# Altium schematic symbol library uControllerTemplate2021.SchLib: 25 symbols
Pins are listed as number, name and electrical type; pins without a type are passive.

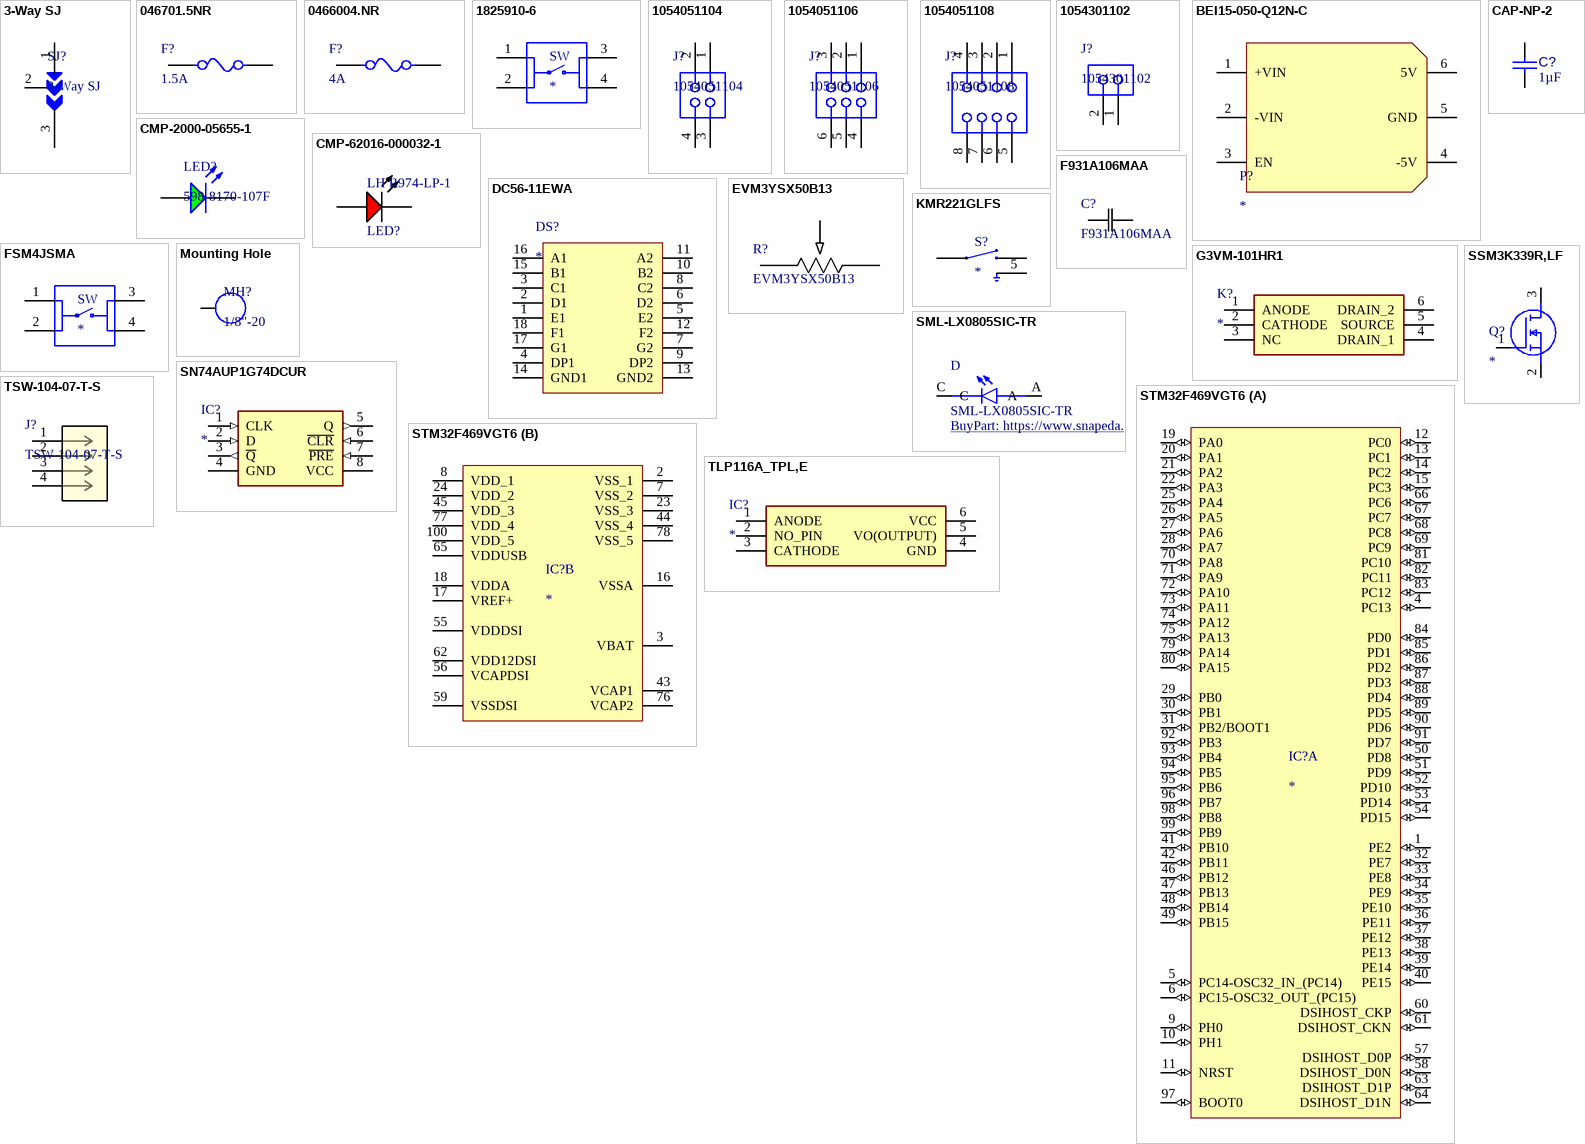
[diagram p0: symbols 3-Way SJ to TSW-104-07-T-S]

## 3-Way SJ
designator SJ?
3-Way Solder Jumper
footprint 3-Way SJ
pins: 1, 2, 3

## 046701.5NR
designator F?, comment 1.5A
1.5A 0603 Fuse; Manufacturer_Name: LITTELFUSE; Manufacturer_Part_Number: 046701.5NR; Datasheet Link: https://www.littelfuse.com/~/media/electronics/datasheets/fuses/littelfuse_fuse_467_datasheet.pdf.pdf; Height: 0.432mm; Arrow Part Number: 046701.5NR; Arrow Price/Stock: https://www.arrow.com/en/products/046701.5nr/littelfuse; Mouser Part Number: 576-046701.5NR; Mouser Price/Stock: https://www.mouser.com/Search/Refine.aspx?Keyword=576-046701.5NR; Value: 1.5A
footprint FUSC1608X43N
pins: 1, 2

## 0466004.NR
designator F?, comment 4A
FUSE BOARD MNT 4A 32VAC/VDC 1206; Manufacturer: Littelfuse; Manufacturer Part Number: 0466004.NR; DC Cold Resistance: 14mR; Voltage Rating (AC): 32V; Fuse Type: Board Mount (Cartridge Style Excluded); Approvals: UL,CSA; Supplier 1: Digi-Key; RoHS: Yes; Category: Fuses; Stock 1: 7288; Pricing 1: 1=0.85000, 5=0.82000, 10=0.76800, 50=0.63520, 100=0.52930, 250=0.51608, 500=0.43668, 1000=0.38376 (USD); Mount: Surface Mount; Case/Package: 1206; Case Code (Imperial): 1206; Case Code (Metric): 3216; Min Operating Temperature: -55°C; Max Operating Temperature: 90°C; Voltage Rating (DC): 32V; Current Rating: 4A; Packaging: Tape and Reel; Resistance: 14mR; Package Quantity: 5000; Fuse Current: 4A; Voltage Rating: 32V; Length: 3.18mm; Height: 0.023inch; Depth: 1.52mm; Width: 1.52mm; Lead Free: Lead Free; REACH SVHC: Unknown; ComponentLink1URL: https://datasheet.ciiva.com/16200/littelfuse-fuse-466-16200179.pdf?src-supplier=Future+Electronics; ComponentLink1Description: https://datasheet.ciiva.com/16200/littelfuse-fuse-466-16200179.pdf?src-supplier=Future+Electronics; ComponentLink2URL: https://datasheet.ciiva.com/1549/48294-1549713.pdf?src-supplier=Element14; ComponentLink2Description: https://datasheet.ciiva.com/1549/48294-1549713.pdf?src-supplier=Element14; ComponentLink3URL: https://datasheet.ciiva.com/7991/littelfuse-fuse-466-7991928.pdf?src-supplier=Element14; ComponentLink3Description: https://datasheet.ciiva.com/7991/littelfuse-fuse-466-7991928.pdf?src-supplier=Element14; ComponentLink4URL: https://datasheet.ciiva.com/46394/728615-46394826.pdf?src-supplier=Element14; ComponentLink4Description: https://datasheet.ciiva.com/46394/728615-46394826.pdf?src-supplier=Element14; ComponentLink5URL: https://datasheet.ciiva.com/22713/48294-22713051.pdf?src-supplier=Element14; ComponentLink5Description: https://datasheet.ciiva.com/22713/48294-22713051.pdf?src-supplier=Element14; ComponentLink6URL: https://datasheet.ciiva.com/301/466seriesdrawing-301660.pdf?src-supplier=Digi-Key; ComponentLink6Description: https://datasheet.ciiva.com/301/466seriesdrawing-301660.pdf?src-supplier=Digi-Key; ComponentLink7URL: https://datasheet.ciiva.com/301/466seriesdrawing-301661.pdf?src-supplier=Digi-Key; ComponentLink7Description: https://datasheet.ciiva.com/301/466seriesdrawing-301661.pdf?src-supplier=Digi-Key; ComponentLink8URL: https://datasheet.ciiva.com/301/466seriesdrawing-301662.pdf?src-supplier=Digi-Key; ComponentLink8Description: https://datasheet.ciiva.com/301/466seriesdrawing-301662.pdf?src-supplier=Digi-Key; Supplier Part Number 1: F1459CT-ND; Value: 4A
footprint 0466004.NR (FUSE BOARD MNT 4A 32VAC/VDC 1206)
pins: 1, 2

## 1825910-6
designator SW
Switch Push Button OFF _ON_ SPST Round Button 0.05A 24VDC Momentary Contact PC Pins Thru-Hole; Configuration_Pole-Throw: Single Pole - Single Throw; MF: TE Connectivity; Contact_Current_Rating: 50 mA; MP: 1825910-6; Digi-Key_Purchase_URL: https://www.digikey.com/product-detail/en/te-connectivity-alcoswitch-switches/1825910-6/450-1650-ND/1632536?utm_source=snapeda&utm_medium=aggregator&utm_campaign=symbol; TE_purchase_URL: https://www.te.com/usa-en/product-1825910-6.html?te_bu=Cor&te_type=disp&te_campaign=seda_glo_cor-seda-global-disp-prtnr-fy19-seda-model-bom-cta_sma-317_1&elqCampaignId=32493; Value: *; Digi-Key_Part_Number: 450-1650-ND; SnapEDA_Link: https://www.snapeda.com/parts/1825910-6/TE%20Connectivity%20ALCOSWITCH%20Switches/view-part/424522/?ref=snap; EU_RoHS_Compliance: Compliant; Package: None
footprint SW_1825910-6-4
pins: 1, 2, 3, 4

## 1054051104
designator J?
Nano-Fit Right-Angle Header, Surface Mount, 2.50mm Pitch, Dual Row, 4 Circuits, 0.76µm Tin (Sn) Plating, Black, Glow-Wire Capable; Manufacturer: Molex; Pitch: 2.5 mm; Part Number: 1054051104; ComponentLink2Description: Datasheet; Mounting Technology: Surface Mount; ComponentLink2URL: https://www.molex.com/webdocs/datasheets/pdf/en-us/1054051104_PCB_HEADERS.pdf; Orientation: Right
footprint 1054051104 (Nano-Fit Right-Angle Header, Surface Mount, 2.50mm Pitch, Dual Row, 4 Circuits, 0.76µm Tin (Sn) Plating, Black, Glow-Wire Capable)
pins: 1, 2, 3, 4

## 1054051106
designator J?
Nano-Fit Right-Angle Header, Surface Mount, 2.50mm Pitch, Dual Row, 6 Circuits, 0.76µm Tin (Sn) Plating, Black, Glow-Wire Capable; Manufacturer: Molex; Pitch: 2.5 mm; Part Number: 1054051106; ComponentLink2Description: Datasheet; Mounting Technology: Surface Mount; ComponentLink2URL: https://www.molex.com/webdocs/datasheets/pdf/en-us/1054051106_PCB_HEADERS.pdf; Orientation: Right
footprint 1054051106 (Nano-Fit Right-Angle Header, Surface Mount, 2.50mm Pitch, Dual Row, 6 Circuits, 0.76µm Tin (Sn) Plating, Black, Glow-Wire Capable)
pins: 1, 2, 3, 4, 5, 6

## 1054051108
designator J?
Nano-Fit Right-Angle Header, Surface Mount, 2.50mm Pitch, Dual Row, 8 Circuits, 0.76µm Tin (Sn) Plating, Black, Glow-Wire Capable; Manufacturer: Molex; Part Number: 1053141108; Pitch: 2.5mm; ComponentLink2URL: https://www.molex.com/webdocs/datasheets/pdf/en-us/1054051108_PCB_HEADERS.pdf; ComponentLink2Description: Datasheet; Orientation: Right; Mounting Technology: Surface Mount
footprint 1054051108 (Nano-Fit Right-Angle Header, Surface Mount, 2.50mm Pitch, Dual Row, 8 Circuits, 0.76µm Tin (Sn) Plating, Black, Glow-Wire Capable)
pins: 1, 2, 3, 4, 5, 6, 7, 8

## 1054301102
designator J?
Nano-Fit Right-Angle Header, Surface Mount, 2.50mm Pitch, Single Row, 2 Circuits, 0.76µm Tin (Sn) Plating, Black, Glow-Wire Capable; Manufacturer: Molex; Pitch: 2.5 mm; Part Number: 1054301102; ComponentLink2Description: Datasheet; Mounting Technology: Surface Mount; ComponentLink2URL: https://www.molex.com/webdocs/datasheets/pdf/en-us/1054301102_PCB_HEADERS.pdf; Orientation: Right
footprint 1054301102 (Nano-Fit Right-Angle Header, Surface Mount, 2.50mm Pitch, Single Row, 2 Circuits, 0.76µm Tin (Sn) Plating, Black, Glow-Wire Capable)
pins: 1, 2

## BEI15-050-Q12N-C
designator P?
DC Converter 2 Output 5V -5V 1.5A, 1.5A 9V - 36V Input; Manufacturer: Murata; Model: BEI15-050-Q12N-C; Datasheet: https://www.murata.com/products/productdata/8807024656414/bei15.pdf?1583754810000; Digi-Key Part Number: 811-2180-5-ND
footprint BEI15-050-Q12N-C (Isolated Module DC DC Converter 2 Output 5V -5V 1.5A, 1.5A 9V - 36V Input)
pins: 1 +VIN, 2 -VIN, 3 EN, 4 -5V, 5 GND, 6 5V

## CAP-NP-2
designator C?, comment 1µF
Chip Capacitor, 1 uF, +/-10%, 25 V, 0805 (2012 Metric); Tolerance: 10%; Capacitor Type: Ceramic; Voltage Rating: 25V; Mounting Technology: SM; Case/Package: 0805; Max Operating Temperature: 125°C; RoHS Compliant: True; Min Operating Temperature: -55°C; Pins: 2; Value: 1µF
footprint CAPC2013X145X50ML20T25 (Chip Capacitor, 2-Leads, Body 2.2x1.45mm, IPC Low Density)
footprint CAPC2013X145X50NL20T25 (Chip Capacitor, 2-Leads, Body 2.2x1.45mm, IPC Medium Density)
footprint CAPC2013X145X50LL20T25 (Footprint not found)
pins: 1, 2

## CMP-2000-05655-1
designator LED?, comment 598-8170-107F
Single Color, 2 V, -30 to 85 degC, 2-Pin SMD (0805), RoHS, Tape and Reel; Manufacturer: Dialight; Main Category: ChipLED; Shape Type: Rectangular; Forward Current: 25mA; Product Length (mm): 2mm; Emitting Color: YellowGreen; Test Current (It): 20mA; Number of  Elements: 1; Luminous Intensity: 20mcd; DELETED: Compliant; Reverse Voltage: 5V; Chip Material: GaP; High Brightness: No; Viewing Angle: 140deg; Dominant Wave Length: 570nm; Type: Uni-Color; Product Depth (mm): 1.25mm; Power Dissipation: 60W; Product Height (mm): 0.7mm; Forward Voltage: 2.4V; Lens Dimensions: 1.4x1.25x0.4mm; Pin Count: 2; Datasheet URL: https://datasheet.ciiva.com/22748/1484480-22748121.pdf; Operating Temperature Classification: Commercial; Package Reference: 0805; Operating Temp Range: -30Cto85C; Mounting: SurfaceMount; Mounting Technology: SurfaceMount; Manufacturer URL: http://www.dialight.com/; Package Description: 2-Pin Surface Mount Device, Body 2 x 1.25 mm; Lum Intensity: 20mcd; Datasheet Version: 10/2008; Rad Hardened: No; Packaging: TapeandReel; Package Type: SMD
footprint 0805_A (Chip LED, 2-Leads, Body 2.0x1.3mm, IPC Medium Density)
pins: 1 K, 2 A

## CMP-62016-000032-1
designator LED?, comment LH R974-LP-1
LED RED DIFFUSED 0805 SMD; Number of Elements: 1; Forward Voltage: 2.6V; Viewing Angle: 160°; Reverse Voltage: 5V; Test Current: 20mA; Dominant Wavelength: 645nm; Forward Current: 30mA; Luminous Intensity: 15mcd; Depth: 1.35mm; Min Operating Temperature: -30°C; Length: 2.1mm; Max Operating Temperature: 85°C; Radiation Hardening: No; Packaging: Tape and Reel; Number of Pins: 2; Mount: Surface Mount; Lens Style: Diffused
footprint 0805_A (Chip LED, 2-Leads, Body 2.0x1.3mm, IPC Medium Density)
pins: 1 K, 2 A

## DC56-11EWA
designator DS?
Display; Manufacturer_Name: Kingbright; Manufacturer_Part_Number: DC56-11EWA; Datasheet Link: http://www.us.kingbright.com/images/catalog/SPEC/DC56-11EWA.pdf; Height: 8.25mm; Arrow Part Number: DC56-11EWA; Arrow Price/Stock: https://www.arrow.com/en/products/dc56-11ewa/kingbright; Mouser Part Number: 604-DC56-11EWA; Mouser Price/Stock: https://www.mouser.co.uk/ProductDetail/Kingbright/DC56-11EWA?qs=SO8VdE%2FgosGvL%2FnJcFkMow%3D%3D
footprint DIPS1524W75P254L2500H825Q18N
pins: 1 E1, 2 D1, 3 C1, 4 DP1, 5 E2, 6 D2, 7 G2, 8 C2, 9 DP2, 10 B2, 11 A2, 12 F2, 13 GND2, 14 GND1, 15 B1, 16 A1, 17 G1, 18 F1

## EVM3YSX50B13
designator R?
Panasonic EVM-3YSX50B13; Built_By: EMA_UL_Team; SourceLibrary: Panasonic_2012-04-02a; Vendor: Panasonic; Manufacturer_Part_Number: EVM3YSX50B13; Copyright: Copyright (C) 2018 Accelerated Designs. All rights reserved; RefDes: RefDes; Type: DEV
footprint POT_EVM3Y_PAN
pins: 1, 2, 3

## F931A106MAA
designator C?
No Description Available; Vendor: AVX Corporation; Built_By: EMA_UL_Team; SourceLibrary: AVX_2015-1-12; Type: DEV; Manufacturer_Part_Number: F931A106MAA; Copyright: Copyright (C) 2018 Accelerated Designs. All rights reserved; RefDes: RefDes
footprint F93-A_AVX
pins: 1 11, 2 12

## FSM4JSMA
designator SW
Tactile Switch SPST-NO Top Actuated Surface Mount; Contact_Current_Rating: 50 mA; MP: FSM4JSMA; Configuration_Pole-Throw: Single Pole - Single Throw; MF: TE Connectivity; SnapEDA_Link: https://www.snapeda.com/parts/FSM4JSMA/TE%20Connectivity%20ALCOSWITCH%20Switches/view-part/543632/?ref=snap; Availability: Unavailable; TE_purchase_URL: https://www.te.com/usa-en/product-4-1437565-1.html?te_bu=Cor&te_type=disp&te_campaign=seda_glo_cor-seda-global-disp-prtnr-fy19-seda-model-bom-cta_sma-317_1&elqCampaignId=32493; EU_RoHS_Compliance: Compliant; Price: None; Value: *; Package: None
footprint TE_FSM4JSMA
pins: 1, 2, 3, 4

## G3VM-101HR1
designator K?
Relay or Contactor; Manufacturer_Name: Omron Electronics; Manufacturer_Part_Number: G3VM-101HR1; Datasheet Link: https://componentsearchengine.com/Datasheets/1/G3VM-101HR1.pdf; Height: 2.1mm; Arrow Part Number: G3VM-101HR1; Arrow Price/Stock: https://www.arrow.com/en/products/g3vm-101hr1/omron; Mouser Part Number: 653-G3VM-101HR1; Mouser Price/Stock: https://www.mouser.com/Search/Refine.aspx?Keyword=653-G3VM-101HR1
footprint G3VM101HR1
pins: 1 ANODE, 2 CATHODE, 3 NC, 4 DRAIN_1, 5 SOURCE, 6 DRAIN_2

## KMR221GLFS
designator S?
Tactile Switch SPST-NO Top Actuated Surface Mount; MP: KMR221GLFS; MF: C&K; Price: None; Package: None; Value: *; Availability: Unavailable; SnapEDA_Link: https://www.snapeda.com/parts/KMR221GLFS/C%26K/view-part/347724/?ref=snap
footprint SW_KMR221GLFS
pins: 1, 2 3, 3, 4 1, 5

## Mounting Hole
designator MH?, comment 1/8"-20
Mounting Hole for 1/8"-20 Thread Size, 1-1/8" Long Black-Oxide Alloy Steel Socket Head Screw; Screw Specs: https://www.mcmaster.com/91251A560/
footprint MOUNTING_HOLE (Mounting Hole for 1/4"-20 Thread Size, 1-1/8" Long Black-Oxide Alloy Steel Socket Head Screw)
pins: 1

## SML-LX0805SIC-TR
designator D
Red LED Indication - Discrete 2V 0805 (2012 Metric); MF: Lumex Opto/Components; MP: SML-LX0805SIC-TR; SnapEDA_Link: https://www.snapeda.com/parts/SML-LX0805SIC-TR/Lumex%20Opto/Components%20Inc./view-part/320407/?ref=snap; Value: *; Package: 0805 Lumex; Digi-Key_Part_Number: 67-1636-1-ND; BuyPart: https://www.snapeda.com/parts/SML-LX0805SIC-TR/Lumex%20Opto/Components%20Inc./view-part/320407/?ref=eda
footprint LEDC2012X120N
pins: A, C

## SN74AUP1G74DCUR
designator IC?
Integrated Circuit; Manufacturer_Name: Texas Instruments; Manufacturer_Part_Number: SN74AUP1G74DCUR; Datasheet Link: http://www.ti.com/lit/gpn/sn74aup1g74; Height: 0.9mm; Arrow Part Number: SN74AUP1G74DCUR; Arrow Price/Stock: https://www.arrow.com/en/products/sn74aup1g74dcur/texas-instruments; Mouser Part Number: 595-SN74AUP1G74DCUR; Mouser Price/Stock: https://www.mouser.co.uk/ProductDetail/Texas-Instruments/SN74AUP1G74DCUR?qs=7kv20MEVUlht0wF4P3v%252Bhg%3D%3D
footprint SOT50P310X90-8N
pins: 1 CLK (in), 2 D (in), 3 ~{Q} (out), 4 GND (power), 5 Q (out), 6 ~{CLR} (in), 7 ~{PRE} (in), 8 VCC (power)

## SSM3K339R,LF
designator Q?
MOSFET (N-Channel); Manufacturer_Name: Toshiba; Manufacturer_Part_Number: SSM3K339R,LF; Datasheet Link: https://www.arrow.com/en/products/ssm3k339rlf/toshiba; Height: 0.88mm; Arrow Part Number: SSM3K339R,LF; Arrow Price/Stock: https://www.arrow.com/en/products/ssm3k339rlf/toshiba; Mouser Part Number: 757-SSM3K339RLF; Mouser Price/Stock: https://www.mouser.co.uk/ProductDetail/Toshiba/SSM3K339RLF?qs=vPP9GyyTAo2h4IM%252B%252BLvR%252BA%3D%3D
footprint SOTFL95P240X88-3N
pins: 1 G, 2 S, 3 D

## STM32F469VGT6
designator IC?
Integrated Circuit; Manufacturer_Name: STMicroelectronics; Manufacturer_Part_Number: STM32F469VGT6; Datasheet Link: http://www.mouser.com/datasheet/2/389/stm32f469ae-956306.pdf; Height: 1.6mm; Arrow Part Number: STM32F469VGT6; Arrow Price/Stock: https://www.arrow.com/en/products/stm32f469vgt6/stmicroelectronics; Mouser Part Number: 511-STM32F469VGT6; Mouser Price/Stock: https://www.mouser.co.uk/ProductDetail/STMicroelectronics/STM32F469VGT6?qs=o7IDWEFmXKBnYVpbRx%2F38g%3D%3D
footprint QFP50P1600X1600X160-100N
part A pins: 1 PE2 (io), 4 PC13 (io), 5 PC14-OSC32_IN_(PC14) (io), 6 PC15-OSC32_OUT_(PC15) (io), 9 PH0 (io), 10 PH1 (io), 11 NRST (io), 12 PC0 (io), 13 PC1 (io), 14 PC2 (io), 15 PC3 (io), 19 PA0 (io), 20 PA1 (io), 21 PA2 (io), 22 PA3 (io), 25 PA4 (io), 26 PA5 (io), 27 PA6 (io), 28 PA7 (io), 29 PB0 (io), 30 PB1 (io), 31 PB2/BOOT1 (io), 32 PE7 (io), 33 PE8 (io), 34 PE9 (io), 35 PE10 (io), 36 PE11 (io), 37 PE12 (io), 38 PE13 (io), 39 PE14 (io), 40 PE15 (io), 41 PB10 (io), 42 PB11 (io), 46 PB12 (io), 47 PB13 (io), 48 PB14 (io), 49 PB15 (io), 50 PD8 (io), 51 PD9 (io), 52 PD10 (io), 53 PD14 (io), 54 PD15 (io), 57 DSIHOST_D0P (io), 58 DSIHOST_D0N (io), 60 DSIHOST_CKP (io), 61 DSIHOST_CKN (io), 63 DSIHOST_D1P (io), 64 DSIHOST_D1N (io), 66 PC6 (io), 67 PC7 (io), 68 PC8 (io), 69 PC9 (io), 70 PA8 (io), 71 PA9 (io), 72 PA10 (io), 73 PA11 (io), 74 PA12 (io), 75 PA13 (io), 79 PA14 (io), 80 PA15 (io), 81 PC10 (io), 82 PC11 (io), 83 PC12 (io), 84 PD0 (io), 85 PD1 (io), 86 PD2 (io), 87 PD3 (io), 88 PD4 (io), 89 PD5 (io), 90 PD6 (io), 91 PD7 (io), 92 PB3 (io), 93 PB4 (io), 94 PB5 (io), 95 PB6 (io), 96 PB7 (io), 97 BOOT0 (io), 98 PB8 (io), 99 PB9 (io)
part B pins: 2 VSS_1, 3 VBAT, 7 VSS_2, 8 VDD_1, 16 VSSA, 17 VREF+, 18 VDDA, 23 VSS_3, 24 VDD_2, 43 VCAP1, 44 VSS_4, 45 VDD_3, 55 VDDDSI, 56 VCAPDSI, 59 VSSDSI, 62 VDD12DSI, 65 VDDUSB, 76 VCAP2, 77 VDD_4, 78 VSS_5, 100 VDD_5

## TLP116A_TPL,E
designator IC?
Integrated Circuit; Manufacturer_Name: Toshiba; Manufacturer_Part_Number: TLP116A(TPL,E; Datasheet Link: https://media.digikey.com/pdf/Data%20Sheets/Toshiba%20PDFs/TLP116A.pdf; Height: 2.3mm; Arrow Part Number: TLP116A(TPL,E; Arrow Price/Stock: https://www.arrow.com/en/products/tlp116a-tple/toshiba; Mouser Part Number: 757-TLP116A(TPLE; Mouser Price/Stock: https://www.mouser.co.uk/ProductDetail/Toshiba/TLP116ATPLE?qs=HVbQlW5zcXWPuFTVF%252BZ0qw%3D%3D
footprint SOT127P700X230-6N
pins: 1 ANODE, 2 NO_PIN, 3 CATHODE, 4 GND, 5 VO(OUTPUT), 6 VCC

## TSW-104-07-T-S
designator J?
4 Pin Header; Vendor: Samtec Inc; Built_By: EMA_UL_Team; Manufacturer_Part_Number: TSW-104-07-T-S; Copyright: Copyright (C) 2018 Accelerated Designs. All rights reserved; RefDes: RefDes; Type: DEV
footprint CON4_1X4_TU_TSW
pins: 1, 2, 3, 4